# EAGLE library part M80-5T10805M2-02-331-00-000 (library Connectors)
Power to the Board DatamateMix-TekMale VerticalPCB Connector
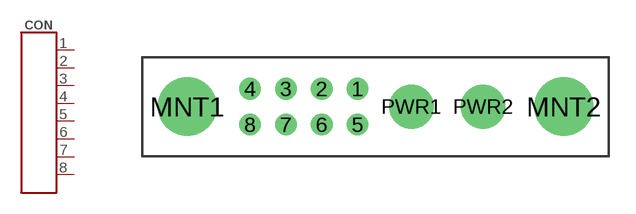
[diagram p13: symbol with the pads of M80-5T10805M2-02-331-00-000; footprint M80-5T10805M2-02-331-00-000]

Designator prefix CON

## M80-5T10805M2-02-331-00-000 (MANF: Harwin; MANF#: M80-5T10805M2-02-331-00-000; MOUSER#: 855-M805T10805M22331)  [M80-5T10805M2-02-331-00-000]
1  1
2  2
3  3
4  4
5  5
6  6
7  7
8  8

## Footprint M80-5T10805M2-02-331-00-000 (pad centres in mm)
drill 0.7: 1 -1,1; 2 -3,1; 3 -5,1; 4 -7,1; 5 -1,-1; 6 -3,-1; 7 -5,-1; 8 -7,-1
drill 2.25: MNT1 -10.5,0; MNT2 10.5,0
drill 1.65: PWR1 2,0; PWR2 6,0